# EAGLE library part CS16312 (library CasaLibrary)
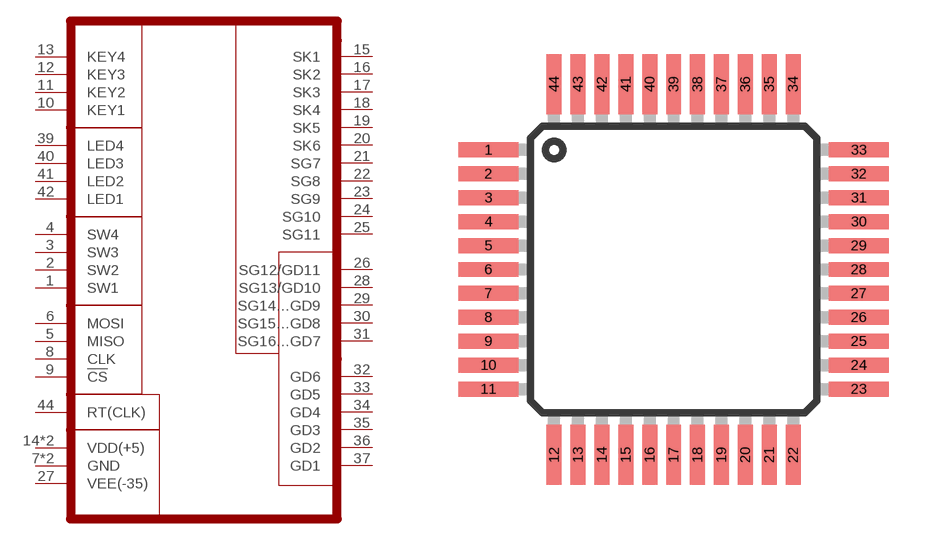
[diagram p17: symbol with the pads of PQFP44; footprint PQFP44]

Designator prefix -

## CS16312  [PQFP44]
1  SW1
2  SW2
3  SW3
4  SW4
5  MISO
6  MOSI
7  GND
8  CLK
9  !CS
10  KEY1
11  KEY2
12  KEY3
13  KEY4
14  VDD(+5)
15  SK1
16  SK2
17  SK3
18  SK4
19  SK5
20  SK6
21  SG7
22  SG8
23  SG9
24  SG10
25  SG11
26  SG12/GD11
27  VEE(-35)
28  SG13/GD10
29  SG14...GD9
30  SG15...GD8
31  SG16...GD7
32  GD6
33  GD5
34  GD4
35  GD3
36  GD2
37  GD1
38  VDD(+5)
39  LED4
40  LED3
41  LED2
42  LED1
43  GND
44  RT(CLK)

## Footprint PQFP44 (pad centres in mm)
Plastic Quad Flat Package
smd 2 x 0.5: 1 -6.2,4; 2 -6.2,3.2; 3 -6.2,2.4; 4 -6.2,1.6; 5 -6.2,0.8; 6 -6.2,0; 7 -6.2,-0.8; 8 -6.2,-1.6; 9 -6.2,-2.4; 10 -6.2,-3.2; 11 -6.2,-4; 23 6.2,-4; 24 6.2,-3.2; 25 6.2,-2.4; 26 6.2,-1.6; 27 6.2,-0.8; 28 6.2,0; 29 6.2,0.8; 30 6.2,1.6; 31 6.2,2.4; 32 6.2,3.2; 33 6.2,4
smd 0.5 x 2: 12 -4,-6.2; 13 -3.2,-6.2; 14 -2.4,-6.2; 15 -1.6,-6.2; 16 -0.8,-6.2; 17 0,-6.2; 18 0.8,-6.2; 19 1.6,-6.2; 20 2.4,-6.2; 21 3.2,-6.2; 22 4,-6.2; 34 4,6.2; 35 3.2,6.2; 36 2.4,6.2; 37 1.6,6.2; 38 0.8,6.2; 39 0,6.2; 40 -0.8,6.2; 41 -1.6,6.2; 42 -2.4,6.2; 43 -3.2,6.2; 44 -4,6.2